# EAGLE library part EMIF02-USB03F2 (library common)
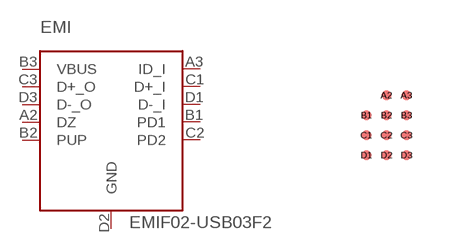
[diagram p9: symbol with the pads of BGA11; footprint BGA11]

Designator prefix EMI

## EMIF02-USB03F2  [BGA11]
A2  DZ
A3  ID_I
B1  PD1
B2  PUP
B3  VBUS
C1  D+_I
C2  PD2
C3  D+_O
D1  D-_I
D2  GND
D3  D-_O

## Footprint BGA11 (pad centres in mm)
smd 0.25 x 0.25: A2 0,0.75; A3 0.5,0.75; B1 -0.5,0.25; B2 0,0.25; B3 0.5,0.25; C1 -0.5,-0.25; C2 0,-0.25; C3 0.5,-0.25; D1 -0.5,-0.75; D2 0,-0.75; D3 0.5,-0.75